# Altium schematic symbol library Common-Parts-Library.SchLib: 20 symbols
Pins are listed as number, name and electrical type; pins without a type are passive.

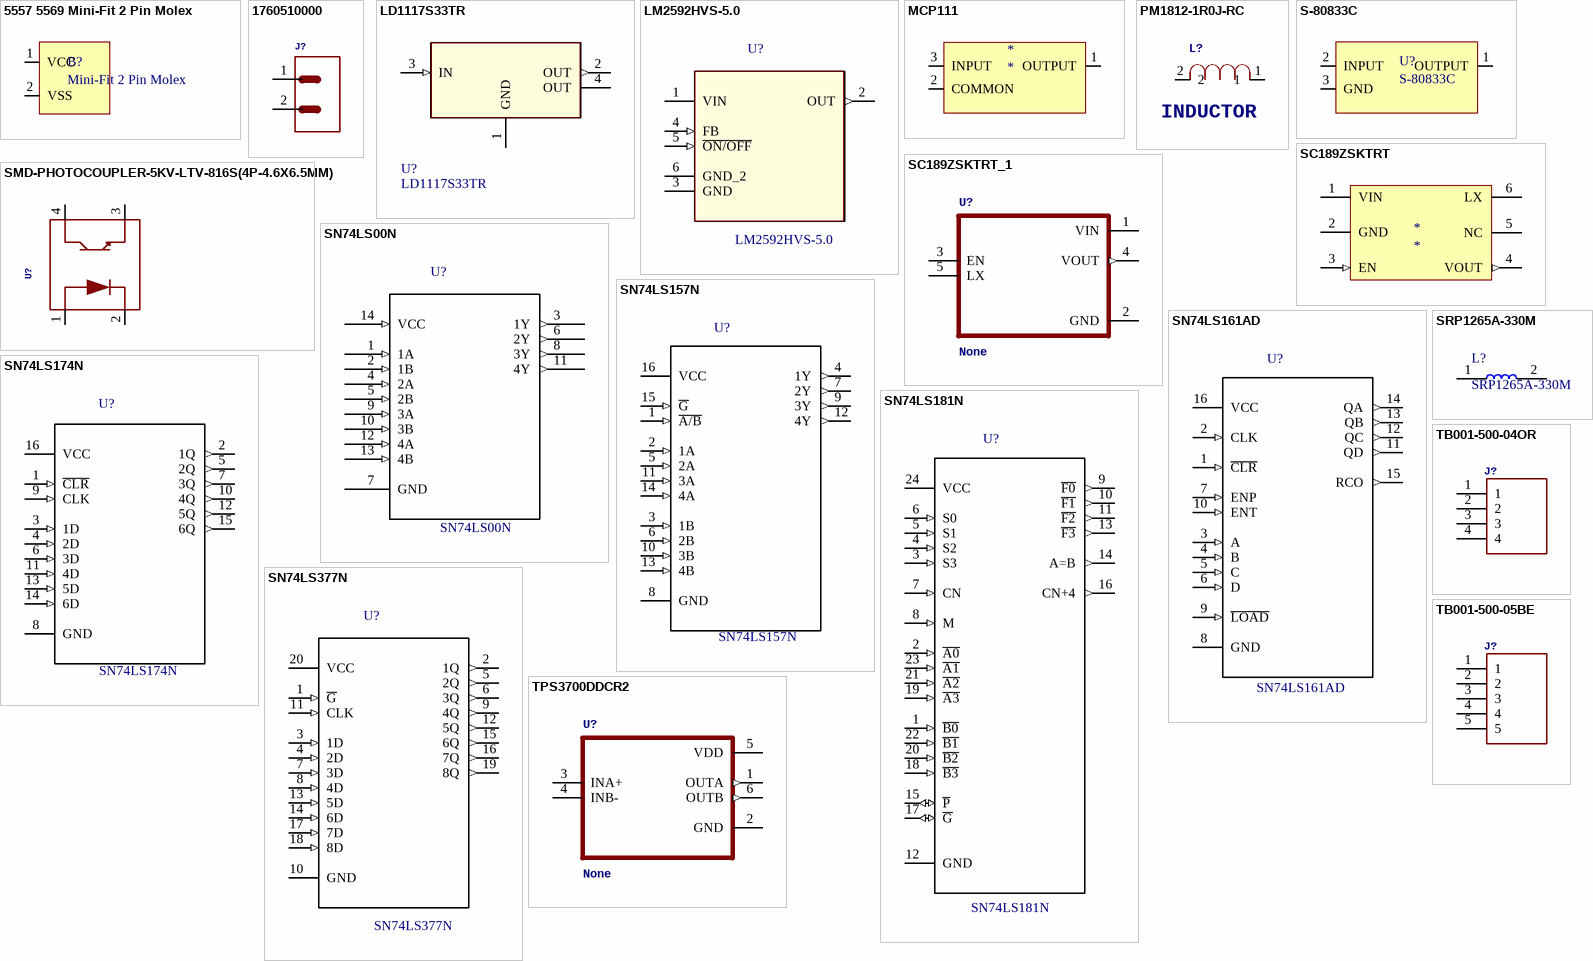
[diagram p0: symbols 5557 5569 Mini-Fit 2 Pin Molex to TPS3700DDCR2]

## 5557 5569 Mini-Fit 2 Pin Molex
designator B?, comment Mini-Fit 2 Pin Molex
footprint Mini-Fit 2 Pin Molex
pins: 1 VCC, 2 VSS

## 1760510000
designator J?, comment 15A 2P TERM BLOCK, BLACKtested: NO  (value not drawn)
GateName_1: G$1; SymbolName_1: CONN2; DeviceSetName: 1760510000; LibraryName: PowerBoardLib1; Package: 1760490000
footprint 1760490000
pins: 1, 2

## LD1117S33TR
designator U?
Value: *
footprint *SOT223
pins: 1 GND, 2 OUT (out), 3 IN (in), 4 OUT

## LM2592HVS-5.0
designator U?
Value: *
footprint *TO170P1435X457-5N
pins: 1 VIN (power), 2 OUT (out), 3 GND, 4 FB (in), 5 ~{ON/OFF} (in), 6 GND_2

## MCP111
designator *
footprint SOT-89-3
pins: 1 OUTPUT, 2 COMMON, 3 INPUT

## PM1812-1R0J-RC
designator L?, comment INDUCTOR
GateName_1: A; SymbolName_1: IND; DeviceSetName: PM1812-1R0J-RC; TOLERANCE: ±5%; LibraryName: PowerBoardLib1; Package: INDC4532X34N; OC_FARNELL: -; SUPPLIER: BOURNS; MPN: PM1812-1R0J-RC; OC_NEWARK: 63K3131
footprint INDC4532X34N
pins: 1, 2

## S-80833C
designator U?
footprint SOT-89-3
pins: 1 OUTPUT, 2 INPUT, 3 GND

## SC189ZSKTRT
designator *
footprint SOT23-5
pins: 1 VIN (power), 2 GND, 3 EN (in), 4 VOUT (out), 5 NC, 6 LX

## SC189ZSKTRT_1
designator U?, comment None
Manufacturer: Semtech Corporation; GateName_1: G$1; SymbolName_1: SC189ZSKTRT; LibraryName: PowerBoardLib1; DeviceSetName: SC189ZSKTRT; Package: SOT95P280X145-5N
footprint SOT95P280X145-5N
pins: 1 VIN (power), 2 GND (power), 3 EN, 4 VOUT (out), 5 LX

## SMD-PHOTOCOUPLER-5KV-LTV-816S(4P-4.6X6.5MM)
designator U?, comment 306060007  (value not drawn)
MPN: LTV-816S; GateName_1: G$1; SymbolName_1: PHOTOCOUPLER-LTV-816S; DeviceSetName: SMD-PHOTOCOUPLER-5KV-LTV-816S(4P-4.6X6.5MM); LibraryName: PowerBoardLib1; Package: SMD4-2.54-4.6X6.5MM
footprint SOP-4
pins: 1 AN, 2 CA, 3 E, 4 C

## SN74LS00N
designator U?
Value: *
footprint *DIP254P762X508-14
pins: 1 1A (in), 2 1B (in), 3 1Y (out), 4 2A (in), 5 2B (in), 6 2Y (out), 7 GND, 8 3Y (out), 9 3A (in), 10 3B (in), 11 4Y (out), 12 4A (in), 13 4B (in), 14 VCC (in)

## SN74LS157N
designator U?
Value: *
footprint *SN74LS157N_DIP254P762X508-16
pins: 1 ~{A/B} (in), 2 1A (in), 3 1B (in), 4 1Y (out), 5 2A (in), 6 2B (in), 7 2Y (out), 8 GND, 9 3Y (out), 10 3B (in), 11 3A (in), 12 4Y (out), 13 4B (in), 14 4A (in), 15 ~{G} (in), 16 VCC (power)

## SN74LS161AD
designator U?
Value: *
footprint *SOIC127P600X175-16N
pins: 1 ~{CLR} (in), 2 CLK (in), 3 A (in), 4 B (in), 5 C (in), 6 D (in), 7 ENP (in), 8 GND, 9 ~{LOAD} (in), 10 ENT (in), 11 QD (out), 12 QC (out), 13 QB (out), 14 QA (out), 15 RCO (out), 16 VCC (power)

## SN74LS174N
designator U?
Value: *
footprint *DIP254P762X508-16
pins: 1 ~{CLR} (in), 2 1Q (out), 3 1D (in), 4 2D (in), 5 2Q (out), 6 3D (in), 7 3Q (out), 8 GND, 9 CLK (in), 10 4Q (out), 11 4D (in), 12 5Q (out), 13 5D (in), 14 6D (in), 15 6Q (out), 16 VCC (power)

## SN74LS181N
designator U?
Value: *
footprint *DIP254P1080X508-24
pins: 1 ~{B0} (in), 2 ~{A0} (in), 3 S3 (in), 4 S2 (in), 5 S1 (in), 6 S0 (in), 7 CN (in), 8 M (in), 9 ~{F0} (out), 10 ~{F1} (out), 11 ~{F2} (out), 12 GND, 13 ~{F3} (out), 14 A=B (out), 15 ~{P} (io), 16 CN+4 (out), 17 ~{G} (io), 18 ~{B3} (in), 19 ~{A3} (in), 20 ~{B2} (in), 21 ~{A2} (in), 22 ~{B1} (in), 23 ~{A1} (in), 24 VCC (power)

## SN74LS377N
designator U?
Value: *
footprint *DIP254P762X508-20
pins: 1 ~{G} (in), 2 1Q (out), 3 1D (in), 4 2D (in), 5 2Q (out), 6 3Q (out), 7 3D (in), 8 4D (in), 9 4Q (out), 10 GND, 11 CLK (in), 12 5Q (out), 13 5D (in), 14 6D (in), 15 6Q (out), 16 7Q (out), 17 7D (in), 18 8D (in), 19 8Q (out), 20 VCC (power)

## SRP1265A-330M
designator L?
Value: *
footprint *IND_SRP1265A-330M
pins: 1, 2

## TB001-500-04OR
designator J?
MANUFACTURER: CUI; GateName_1: G$1; SymbolName_1: TB001-500-04OR; LibraryName: PowerBoardLib1; DeviceSetName: TB001-500-04OR; Package: CUI_TB001-500-04OR; STANDARD: Manufacturer Recommendations
footprint CUI_TB001-500-04OR
pins: 1, 2, 3, 4

## TB001-500-05BE
designator J?
MANUFACTURER: CUI; GateName_1: G$1; SymbolName_1: TB001-500-05BE; LibraryName: PowerBoardLib1; DeviceSetName: TB001-500-05BE; Package: CUI_TB001-500-05BE; STANDARD: Manufacturer Recommendations
footprint CUI_TB001-500-05BE
pins: 1, 2, 3, 4, 5

## TPS3700DDCR2
designator U?, comment None
Manufacturer: Texas Instruments; GateName_1: G$1; SymbolName_1: TPS3700DDCR2; LibraryName: PowerBoardLib1; DeviceSetName: TPS3700DDCR2; Package: SOT95P280X110-6N
footprint SOT95P280X110-6N
pins: 1 OUTA (out), 2 GND (power), 3 INA+, 4 INB-, 5 VDD (power), 6 OUTB (out)